# EAGLE library part LTC3112 (library BrownSpaceEngineering)
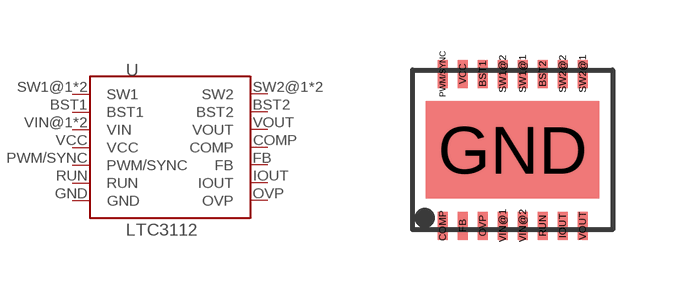
[diagram p4: symbol with the pads of DFN-16; footprint DFN-16]

Designator prefix U

## LTC3112  [DFN-16]
BST1  BST1
BST2  BST2
COMP  COMP
FB  FB
GND  GND
IOUT  IOUT
OVP  OVP
PWM/SYNC  PWM/SYNC
RUN  RUN
SW1@1  SW1
SW1@2  SW1
SW2@1  SW2
SW2@2  SW2
VCC  VCC
VIN@1  VIN
VIN@2  VIN
VOUT  VOUT

## Footprint DFN-16 (pad centres in mm)
smd 0.25 x 0.7: BST1 -0.75,1.9; BST2 0.75,1.9; COMP -1.75,-1.9; FB -1.25,-1.9; IOUT 1.25,-1.9; OVP -0.75,-1.9; PWM/SYNC -1.75,1.9; RUN 0.75,-1.9; SW1@1 0.25,1.9; SW1@2 -0.25,1.9; SW2@1 1.75,1.9; SW2@2 1.25,1.9; VCC -1.25,1.9; VIN@1 -0.25,-1.9; VIN@2 0.25,-1.9; VOUT 1.75,-1.9
smd 4.34 x 2.44: GND 0,0